# EAGLE library part PINHD-1X6 (library pinhead-2x23)
PIN HEADER
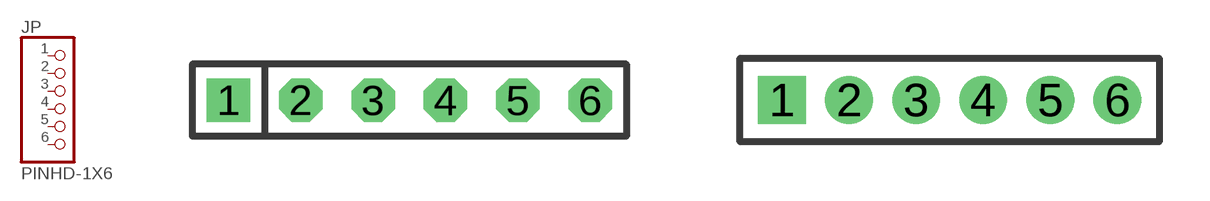
[diagram p29: symbol with the pads of 1X06; footprints 1X06, 1X06M]

Designator prefix JP

## PINHD-1X6  [1X06]
1  1  pas
2  2  pas
3  3  pas
4  4  pas
5  5  pas
6  6  pas

## PINHD-1X6M  [1X06M]
Pads as for 1X06

## Footprint 1X06 (pad centres in mm)
PIN HEADER - 0.1"
drill 1.016 square: 1 -6.35,0
drill 1.016 octagon: 2 -3.81,0; 3 -1.27,0; 4 1.27,0; 5 3.81,0; 6 6.35,0

## Footprint 1X06M (pad centres in mm)
PIN HEADER - 2MM"
drill 0.914 square: 1 -5,0
drill 0.914: 2 -3,0; 3 -1,0; 4 1,0; 5 3,0; 6 5,0